# EAGLE library part MAX9813 (library m-pad)
Maxim's MAX9813 Tiny, Low-Cost, Single/Dual-Input, Fixed-Gain Microphone Amplifiers with Integrated Bias Description: The MAX9812/MAX9813 are single/dual-input, 20dB fixed-gain microphone amplifiers. They offer tiny packaging and a low-noise, integrated microphone bias, making them ideal for portable audio applications such as notebook computers, cell phones, and PDAs. These amplifiers feature a 500kHz bandwidth, Rail-to-Rail® outputs, an industry-leading 100dB power-supply rejection ratio, and a very low 0.015% THD+N. Power-saving features include very low 230uA supply current and a total shutdown mode that cuts the combined supply and BIAS currents to only 100nA. The MAX9812 is a single amplifier in a 6-pin SC70 package (2mm x 2.1mm) and the MAX9813 is a dualinput amplifier available in an 8-pin SOT23 (3mm x 3mm) package. The MAX9813 has two inputs allowing two microphones to be multiplexed to a single output. The MAX9812/MAX9813 are offered in two grades. The MAX9812L/MAX9813L are optimized for 3.3V supply operation (2.7V to 3.6V). The MAX9812H/MAX9813H are PC2001 compliant and are optimized for 5V operation (4.5V to 5.5V). Both devices are specified over the -40°C to +85°C extended operating temperature range. Features: PC2001 Compliant 100dB at 217Hz Power-Supply Rejection Ratio Very Low 230?A Quiescent Current Low 0.015% THD+N Available in Two Versions: - MAX9812L/MAX9813L 2.7V to 3.6V - MAX9812H/MAX9813H 4.5V to 5.5V Internal Low-Noise Microphone Bias Supply - 2.3V for MAX9812L/MAX9813L - 4.0V for MAX9812H/MAX9813H 100nA Low-Power Shutdown Mode Rail-to-Rail Outputs 20dB Fixed Gain Available in Tiny 6-Pin SC70 (2mm x 2.1mm) and 8-Pin SOT23 (3mm x 3mm) Packages Extended Temperature Range -40°C to +85°C Applications: Notebook Computers PDAs Smart Phones Car Kit Adapters Digital Cameras Video Tape Recorders Please send any comments to: messi@users.sourceforge.net
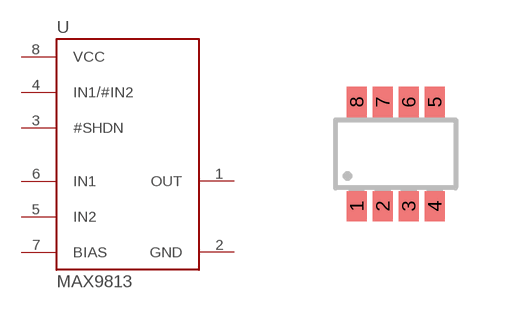
[diagram p172: symbol with the pads of SOT23-8; footprint SOT23-8]

Designator prefix U

## MAX9813  [SOT23-8]
1  OUT  out
2  GND  pwr
3  #SHDN  in
4  IN1/#IN2  in
5  IN2  in
6  IN1  in
7  BIAS  in
8  VCC  pwr

## Footprint SOT23-8 (pad centres in mm)
SOT23-8 package for Maxim's MAX9813
smd 0.5 x 0.75: 1 -0.975,-1.3; 2 -0.325,-1.3; 3 0.325,-1.3; 4 0.975,-1.3; 5 0.975,1.3; 6 0.325,1.3; 7 -0.325,1.3; 8 -0.975,1.3